# Altium schematic symbol library ZTP7193MA.SchLib: 1 symbol
Pins are listed as number, name and electrical type; pins without a type are passive.

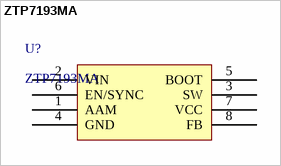
[diagram p0: symbol ZTP7193MA]

## ZTP7193MA
designator U?
-40℃~+125℃@(Ta) 1 Step-Down 0.8V~15V 4.5V~18V 3A 3μA 500kHz TSOT23-8 DC-DC Converters ROHS
pins: 1 AAM, 2 VIN, 3 SW, 4 GND, 5 BOOT, 6 EN/SYNC, 7 VCC, 8 FB